# Altium footprint library relay.PCBLIB: 291 footprints (part 6 of 19)
Each footprint in its own frame and in the unit in brackets; x right, y up, seen from the top. Pads: shape width x height; smd on the part's side, far side on the other; paste and mask are expansions set on the pad; w line width, h text height; cw(c..) or ccw(c..) is an arc to the next point about the centre after c.
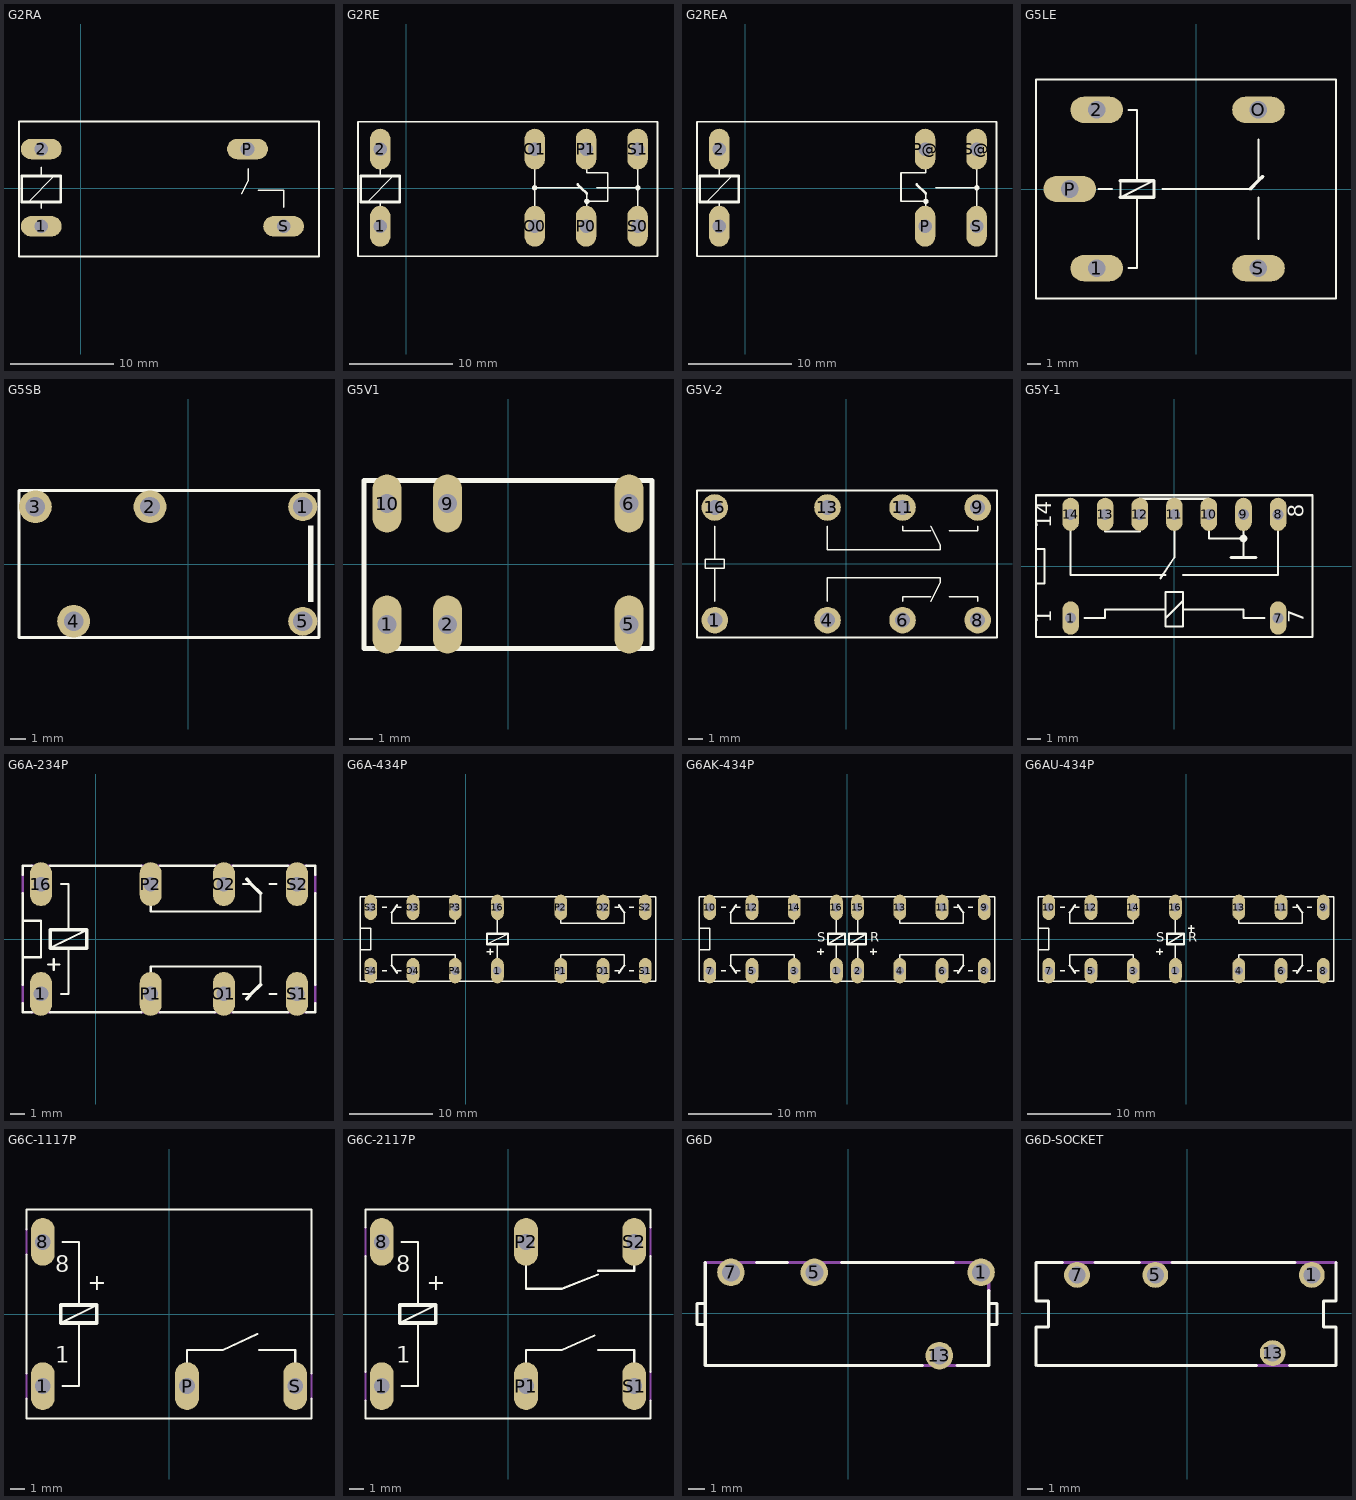
[diagram p5: the footprints below, top view; thin cyan lines are the x and y axes]

## G2RA [mil]
pads (4):
  oval 156x78 hole 52: 1(-150,-145) 2(-150,150) P(637,150) S(775,-145)
Top Overlay:
  lines w6: -199,-52 -101,47 ; -150,-76 -150,-52 ; -150,47 -150,81 ; 615,-20 640,30 640,75 ; 678,-7 775,-7 775,-72 ; -235,-260 910,-260 910,255 -235,255 -235,-260
  lines w10: -224,-52 -224,47 -150,47 -101,47 -76,47 -76,-52 -150,-52 -199,-52 -224,-52

## G2RE [mil]
pads (8):
  oval 78x156 hole 52: 1(-100,-145) 2(-100,150) O0(491,-145) O1(491,150) P0(687,-145) P1(687,150) S0(884,-145) S1(884,150)
Top Overlay:
  circle w10: c885,2 r5
  circle w10: c690,-50 r5
  circle w10: c490,2 r5
  lines w6: -149,-52 -51,47 ; -100,-76 -100,-52 ; -100,47 -100,81 ; 490,-73 490,2 ; 490,78 490,2 ; 668,2 490,2 ; 690,-70 690,-50 ; 690,-20 690,-50 ; 690,78 690,60 770,60 770,-50 690,-50 ; 728,2 885,2 ; 885,-73 885,2 ; 885,78 885,2 ; -185,-260 960,-260 960,255 -185,255 -185,-260
  lines w10: 655,15 668,2 690,-20 ; -174,-52 -174,47 -100,47 -51,47 -26,47 -26,-52 -100,-52 -149,-52 -174,-52

## G2REA [mil]
pads (6):
  oval 78x156 hole 52: 1(-100,-145) 2(-100,150) P(687,-145) P@(687,150) S(884,-145) S@(884,150)
Top Overlay:
  circle w10: c885,2 r5
  circle w10: c690,-50 r5
  lines w6: -149,-52 -51,47 ; -100,-76 -100,-52 ; -100,47 -100,81 ; 690,-70 690,-50 ; 690,-20 690,-50 ; 690,78 690,60 595,60 595,-50 690,-50 ; 728,2 885,2 ; 885,-73 885,2 ; 885,78 885,2 ; -185,-260 960,-260 960,255 -185,255 -185,-260
  lines w10: 655,15 690,-20 ; -174,-52 -174,47 -100,47 -51,47 -26,47 -26,-52 -100,-52 -149,-52 -174,-52

## G5LE [mil]
pads (5):
  oval 156x78 hole 52: 1(-295,-235) 2(-295,235) O(185,235) P(-375,0) S(185,-235)
Top Overlay:
  lines w6: -290,0 -250,0 ; -225,25 -225,-25 -125,25 ; -200,-235 -175,-235 -175,-25 ; -200,235 -175,235 -175,25 ; -100,0 160,0 ; 185,-148 185,-25 ; 185,25 185,147 ; -475,-325 415,-325 415,325 -475,325 -475,-325
  lines w10: -225,-25 -175,-25 -125,-25 -125,25 -175,25 -225,25 ; 160,0 185,25 198,37

## G5SB [mil]
pads (5):
  round 76 hole 51.18: 1(300,150) 5(300,-150)
  round 86 hole 51.18: 2(-100,150) 3(-400,150) 4(-300,-150)
Top Overlay:
  rectangle: 313.98,-99.41 327.76,100.39
  lines w8: -442.91,-192.91 342.52,-192.91 342.52,192.91 -442.91,192.91 -442.91,-192.91

## G5V1 [mil]
pads (6):
  oval 48x96 hole 32: 1(-200,-100) 2(-100,-100) 5(200,-100) 6(200,100) 9(-100,100) 10(-200,100)
Top Overlay:
  lines w8: -238.19,-139.76 238.19,-139.76 238.19,138.19 -238.19,138.19 -238.19,-139.76

## G5V-2 [mm]
pads (8):
  round 1.8 hole 1: 1(-8.89,-3.81) 4(-1.27,-3.81) 6(3.81,-3.81) 8(8.89,-3.81) 9(8.89,3.81) 11(3.81,3.81) 13(-1.27,3.81) 16(-8.89,3.81)
Top Overlay:
  lines w0.102: -8.89,-2.54 -8.89,-0.318 ; -8.89,2.54 -8.89,0.318 ; -1.27,-2.54 -1.27,-0.953 6.35,-0.953 6.35,-1.27 5.715,-2.54 ; -1.27,2.54 -1.27,0.953 6.35,0.953 6.35,1.27 5.715,2.54 ; 3.81,-2.54 3.81,-2.222 5.715,-2.222 ; 3.81,2.54 3.81,2.222 5.715,2.222 ; 6.985,-2.222 8.89,-2.222 8.89,-2.54 ; 6.985,2.222 8.89,2.222 8.89,2.54 ; -8.89,-0.318 -9.525,-0.318 -9.525,0.318 -8.89,0.318 ; -8.89,-0.318 -8.255,-0.318 -8.255,0.318 -8.89,0.318
  lines w0.152: -10.099,-4.979 10.201,-4.979 10.201,4.952 -10.099,4.952 -10.099,-4.979

## G5Y-1 [mil]
pads (9):
  oval 48x96 hole 32: 1(-300,-150) 7(300,-150) 8(300,150) 9(200,150) 10(100,150) 11(0,150) 12(-100,150) 13(-200,150) 14(-300,150)
Top Overlay:
  circle w12: c200,80 r5
  lines w6: -300,110 -300,-25 -25,-25 ; -260,-150 -200,-150 -200,-125 -25,-125 ; -200,110 -200,100 -100,100 -100,110 ; -100,190 -100,195 100,195 100,190 ; -40,-35 0,25 0,110 ; 25,-25 300,-25 300,110 ; 100,110 100,80 200,80 ; 200,25 200,80 ; 200,110 200,80 ; 260,-150 200,-150 200,-125 25,-125 ; -400,-50 -400,50 ; -400,-50 -375,-50 -375,50 -400,50 ; -400,-50 -400,-205 400,-205 400,205 -400,205 -400,50 ; -25,-150 -25,-125 ; -25,-150 25,-100 ; -25,-150 -25,-175 25,-175 25,-125 ; -25,-125 -25,-75 25,-75 25,-100 ; 25,-125 25,-100
  lines w10: 165,25 200,25 235,25
  text "1" at -340,-165 h77.5
  text "7" at 390,-165 h77.5
  text "8" at 390,140 h77.5
  text "14" at -340,110 h77.5
Mechanical 16:
  lines w6: -100,110 -100,190 ; 100,110 100,190

## G6A-234P [mil]
pads (8):
  oval 60x120 hole 40: 1(-150,-150) 16(-150,150) O1(350,-150) O2(350,150) P1(150,-150) P2(150,150) S1(550,-150) S2(550,150)
Top Overlay:
  lines w6: -200,-175 -200,-200 -175,-200 ; -200,-125 -200,-50 ; -200,125 -200,50 ; -200,175 -200,200 -175,200 ; -130,-70 -100,-70 ; -125,-200 125,-200 ; -125,-25 -25,25 ; -125,200 125,200 ; -115,-85 -115,-55 ; -95,-150 -75,-150 -75,-25 ; -95,150 -75,150 -75,25 ; 150,-95 150,-75 450,-75 450,-125 ; 150,95 150,75 450,75 450,125 ; 175,-200 325,-200 ; 175,200 325,200 ; 375,-200 525,-200 ; 375,200 525,200 ; 403,-150 425,-150 ; 403,150 425,150 ; 475,-150 493,-150 ; 475,150 493,150 ; 575,-200 600,-200 600,-175 ; 575,200 600,200 600,175 ; 600,-125 600,125 ; -200,-50 -200,50 ; -200,-50 -150,-50 -150,50 -200,50
  lines w10: 413,-163 425,-150 450,-125 ; 413,163 425,150 450,125 ; -125,-25 -125,25 -75,25 -25,25 -25,-25 -75,-25 -125,-25
Mechanical 16:
  lines w6: -200,-175 -200,-125 ; -200,125 -200,175 ; -175,-200 -125,-200 ; -175,200 -125,200 ; 125,-200 175,-200 ; 125,200 175,200 ; 325,-200 375,-200 ; 325,200 375,200 ; 525,-200 575,-200 ; 525,200 575,200 ; 600,-175 600,-125 ; 600,125 600,175
  text "G6A" at 575,-75 h77.5

## G6A-434P [mil]
pads (14):
  oval 60x120 hole 40: 1(150,-150) 16(150,150) O1(650,-150) O2(650,150) O3(-250,150) O4(-250,-150) P1(450,-150) P2(450,150) P3(-50,150) P4(-50,-150) S1(850,-150) S2(850,150) S3(-450,150) S4(-450,-150)
Top Overlay:
  lines w6: -395,-150 -375,-150 ; -395,150 -375,150 ; -350,-125 -350,-75 -50,-75 -50,-95 ; -350,125 -350,75 -50,75 -50,95 ; -325,-150 -305,-150 ; -325,150 -305,150 ; 100,-60 130,-60 ; 100,-25 200,25 ; 115,-75 115,-45 ; 150,-95 150,-25 ; 150,25 150,95 ; 450,-95 450,-75 750,-75 750,-125 ; 450,95 450,75 750,75 750,125 ; 705,-150 725,-150 ; 705,150 725,150 ; 775,-150 795,-150 ; 775,150 795,150 ; -500,-50 -500,-200 900,-200 900,200 -500,200 -500,50 ; -500,-50 -450,-50 -450,50 -500,50 ; -500,-50 -500,50
  lines w10: -350,-125 -325,-160 ; -350,125 -325,160 ; 725,-160 750,-125 ; 725,160 750,125 ; 100,-25 100,25 150,25 200,25 200,-25 150,-25 100,-25
Mechanical 16:
  text "G6A-434P" at -400,-25 h77.5

## G6AK-434P [mil]
pads (16):
  oval 60x120 hole 40: 1(-50,-150) 2(50,-150) 3(-250,-150) 4(250,-150) 5(-450,-150) 6(450,-150) 7(-650,-150) 8(650,-150) 9(650,150) 10(-650,150) 11(450,150) 12(-450,150) 13(250,150) 14(-250,150) 15(50,150) 16(-50,150)
Top Overlay:
  lines w6: -595,-150 -575,-150 ; -595,150 -575,150 ; -550,-125 -550,-75 -250,-75 -250,-95 ; -550,125 -550,75 -250,75 -250,95 ; -525,-150 -505,-150 ; -525,150 -505,150 ; -140,-60 -110,-60 ; -125,-75 -125,-45 ; -90,-25 -10,25 ; -50,-95 -50,-25 ; -50,25 -50,95 ; 10,-25 90,25 ; 50,-95 50,-25 ; 50,25 50,95 ; 110,-60 140,-60 ; 125,-75 125,-45 ; 250,-95 250,-75 550,-75 550,-125 ; 250,95 250,75 550,75 550,125 ; 505,-150 525,-150 ; 505,150 525,150 ; 575,-150 595,-150 ; 575,150 595,150 ; -700,-50 -700,-200 700,-200 700,200 -700,200 -700,50 ; -700,-50 -650,-50 -650,50 -700,50 ; -700,-50 -700,50
  lines w10: -550,-125 -525,-160 ; -550,125 -525,160 ; 525,-160 550,-125 ; 525,160 550,125 ; -90,-25 -90,25 -50,25 -10,25 -10,-25 -50,-25 -90,-25 ; 10,-25 10,25 50,25 90,25 90,-25 50,-25 10,-25
  text "S" at -140,-30 h77.5
  text "R" at 110,-30 h77.5

## G6AU-434P [mil]
pads (14):
  oval 60x120 hole 40: 1(-50,-150) 3(-250,-150) 4(250,-150) 5(-450,-150) 6(450,-150) 7(-650,-150) 8(650,-150) 9(650,150) 10(-650,150) 11(450,150) 12(-450,150) 13(250,150) 14(-250,150) 16(-50,150)
Top Overlay:
  lines w6: -595,-150 -575,-150 ; -595,150 -575,150 ; -550,-125 -550,-75 -250,-75 -250,-95 ; -550,125 -550,75 -250,75 -250,95 ; -525,-150 -505,-150 ; -525,150 -505,150 ; -140,-60 -110,-60 ; -125,-75 -125,-45 ; -90,-25 -10,25 ; -50,-95 -50,-25 ; -50,25 -50,95 ; 10,50 40,50 ; 25,35 25,65 ; 250,-95 250,-75 550,-75 550,-125 ; 250,95 250,75 550,75 550,125 ; 505,-150 525,-150 ; 505,150 525,150 ; 575,-150 595,-150 ; 575,150 595,150 ; -700,-50 -700,-200 700,-200 700,200 -700,200 -700,50 ; -700,-50 -650,-50 -650,50 -700,50 ; -700,-50 -700,50
  lines w10: -550,-125 -525,-160 ; -550,125 -525,160 ; 525,-160 550,-125 ; 525,160 550,125 ; -90,-25 -90,25 -50,25 -10,25 -10,-25 -50,-25 -90,-25
  text "S" at -140,-30 h77.5
  text "R" at 10,-30 h77.5

## G6C-1117P [mil]
pads (4):
  oval 66x132 hole 44: 1(-350,-200) 8(-350,200) P(50,-200) S(350,-200)
Top Overlay:
  lines w6: -395,-235 -395,-290 395,-290 395,-235 ; -395,-165 -395,165 ; -395,235 -395,290 395,290 395,-165 ; -300,-25 -200,25 ; -295,-200 -250,-200 -250,-25 ; -295,200 -250,200 -250,25 ; 50,-145 50,-100 150,-100 245,-55 ; 250,-100 350,-100 350,-145
  lines w10: -300,-25 -300,25 -250,25 -200,25 -200,-25 -250,-25 -300,-25
  text "1" at -315,-150 h77.5
  text "8" at -315,100 h77.5
  text "+" at -225,50 h77.5
Mechanical 16:
  lines w6: -395,-235 -395,-165 ; -395,165 -395,235 ; 395,-235 395,-165
  text "G6C" at -100,100 h108.5

## G6C-2117P [mil]
pads (6):
  oval 66x132 hole 44: 1(-350,-200) 8(-350,200) P1(50,-200) P2(50,200) S1(350,-200) S2(350,200)
Top Overlay:
  lines w6: -395,-240 -395,-290 395,-290 395,-240 ; -395,-160 -395,160 ; -395,240 -395,290 395,290 395,240 ; -300,-25 -200,25 ; -295,-200 -250,-200 -250,-25 ; -295,200 -250,200 -250,25 ; 50,-145 50,-100 150,-100 240,-60 ; 50,145 50,70 150,70 250,110 ; 250,-100 350,-100 350,-145 ; 250,120 350,120 350,145 ; 395,-160 395,160
  lines w10: -300,-25 -300,25 -250,25 -200,25 -200,-25 -250,-25 -300,-25
  text "1" at -310,-150 h77.5
  text "8" at -310,100 h77.5
  text "+" at -225,50 h77.5
Mechanical 16:
  lines w6: -395,-240 -395,-160 ; -395,160 -395,240 ; 395,-240 395,-160 ; 395,160 395,240
  text "G6C-2" at -100,-160 h108.5

## G6D [mil]
pads (4):
  round 66 hole 43.31: 1(318.11,98.43) 5(-81.89,98.43) 7(-281.89,98.43) 13(218.11,-101.57)
Top Overlay:
  lines w8: -347.44,-26.57 -363.19,-26.57 -363.19,23.62 -347.44,23.62 ; -343.5,122.05 -343.5,-125 177.17,-125 ; -220.47,122.05 -146.65,122.05 ; -15.75,122.05 250.98,122.05 ; 260.83,-125 336.61,-125 336.61,54.13 ; 338.58,-26.57 354.33,-26.57 ; 338.58,23.62 354.33,23.62 ; 356.3,-26.57 356.3,23.62
Mechanical 16:
  lines w8: -343.5,122.05 -220.47,122.05 ; -146.65,122.05 -15.75,122.05 ; 177.17,-125 260.83,-125 ; 250.98,122.05 336.61,122.05 336.61,54.13

## G6D-SOCKET [mil]
pads (4):
  round 66 hole 43.31: 1(318.11,98.43) 5(-81.89,98.43) 7(-281.89,98.43) 13(218.11,-101.57)
Top Overlay:
  lines w8: -386.81,-132.87 -386.81,-34.45 -355.32,-34.45 -355.32,31.5 -386.81,31.5 -386.81,129.92 -319.88,129.92 ; -382.87,-132.87 177.17,-132.87 ; -236.22,129.92 -123.03,129.92 ; -39.37,129.92 274.61,129.92 ; 260.83,-132.87 379.92,-132.87 379.92,-34.45 348.43,-34.45 348.43,31.5 379.92,31.5 379.92,129.92
Mechanical 16:
  lines w8: -319.88,129.92 -236.22,129.92 ; -123.03,129.92 -39.37,129.92 ; 177.17,-132.87 260.83,-132.87 ; 274.61,129.92 379.92,129.92